# Altium schematic symbol library Integrated Circuits.SchLib: 178 symbols (part 3 of 3)
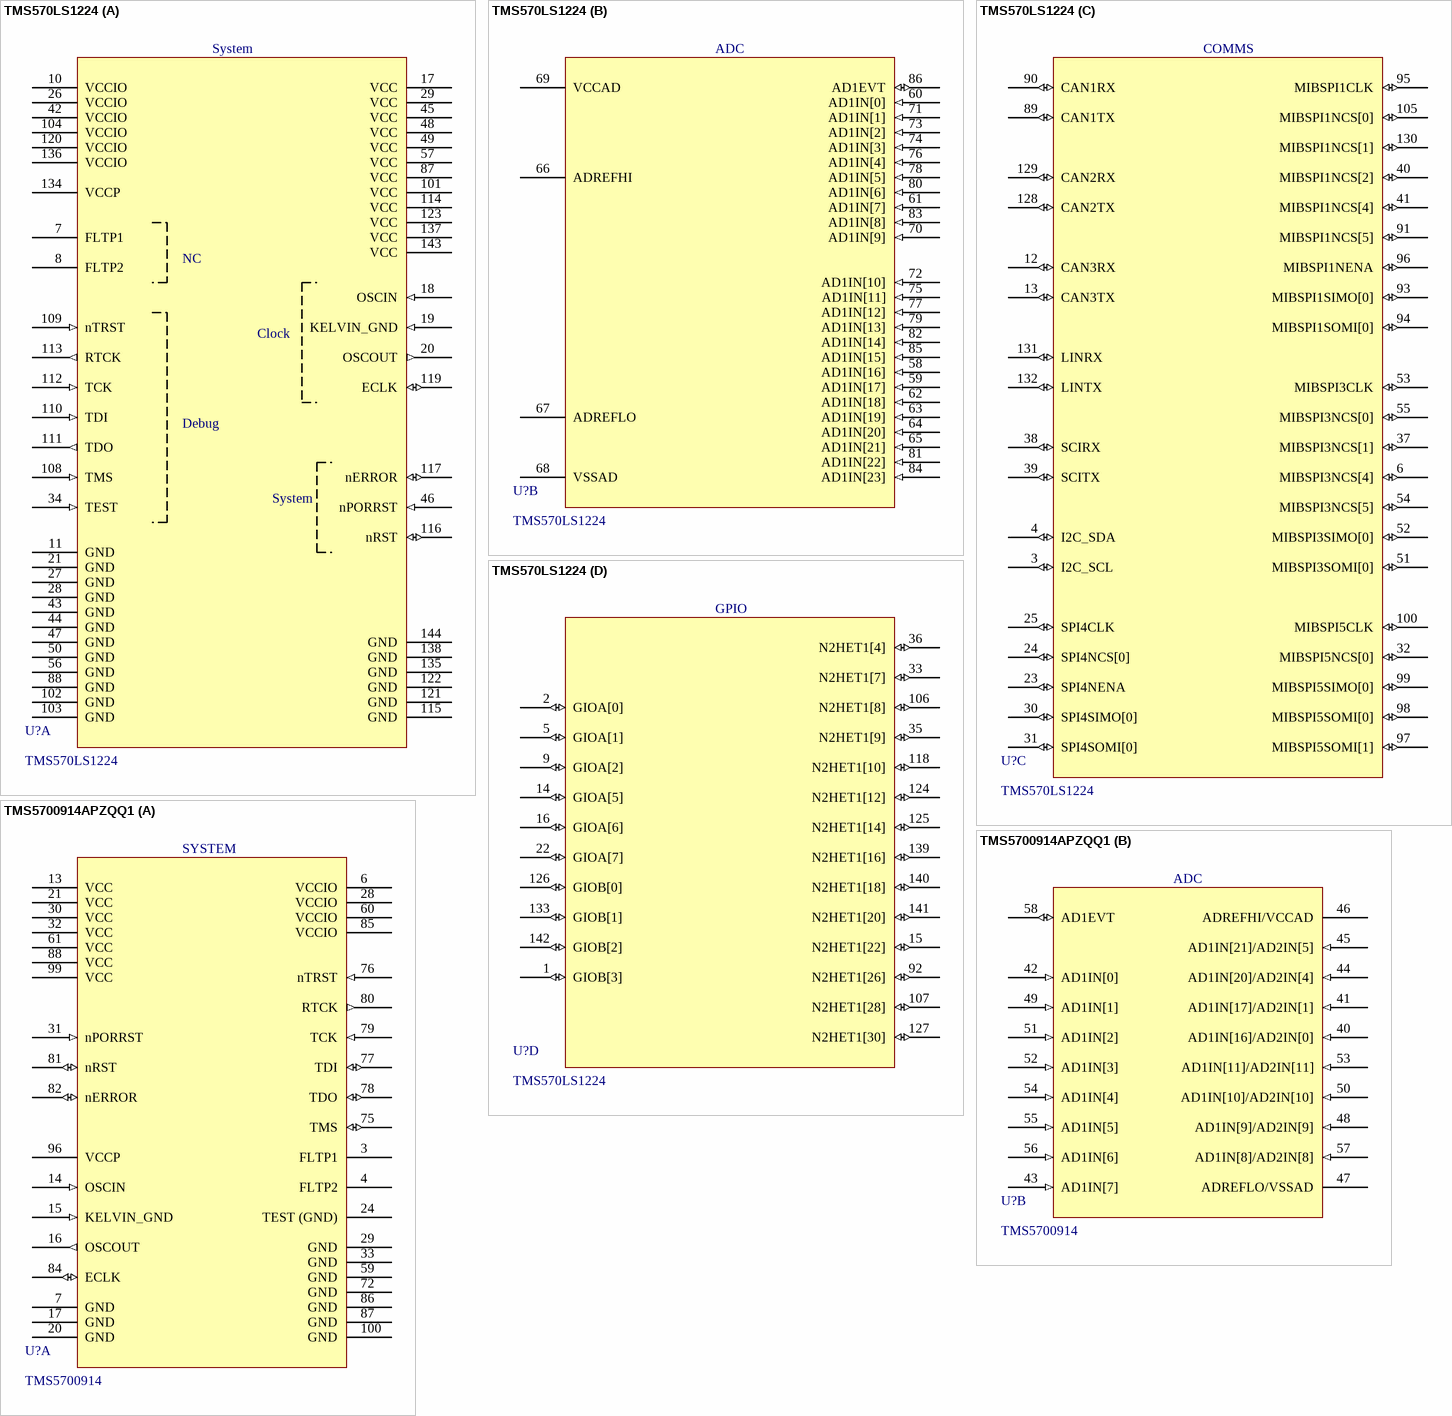
[diagram p18: symbols TMS570LS1224 to TMS5700914APZQQ1]

## TMS570LS1224
designator U?
IC MCU 32BIT 1.25MB FLASH 144QFP; Supplier 1: Digi-Key; Supplier Part Number 1: 296-47200-ND
footprint PGE (S-PQFP-G144) (TSQFP, 144-Leads, Body 20.00x20.00mm, Pitch 0.50mm, IPC Medium Density)
part A pins: 7 FLTP1 "Flash test pads. These terminals are reserved for TI use only. For proper  operation these terminals  must connect only to a  test pad or not be  connected at all [no  connect (NC)].", 8 FLTP2 "Flash test pads. These terminals are reserved for TI use only. For proper  operation these terminals  must connect only to a  test pad or not be  connected at all [no  connect (NC)].", 10 VCCIO "3V3 Power", 11 GND (power) "Ground", 17 VCC "1V2 Power", 18 OSCIN (in) "From external  crystal/resonator, or  external clock input", 19 KELVIN_GND (in) "Kelvin ground for oscillator", 20 OSCOUT (out) "To external  crystal/resonator", 21 GND (power) "Ground", 26 VCCIO "3V3 Power", 27 GND (power) "Ground", 28 GND (power) "Ground", 29 VCC "1V2 Power", 34 TEST (in) "Test enable. This terminal must be connected to  ground directly or via a  pull-down resistor.", 42 VCCIO "3V3 Power", 43 GND (power) "Ground", 44 GND (power) "Ground", 45 VCC "1V2 Power", 46 nPORRST (in) "Power-on reset, cold reset external power supply  monitor circuitry must  drive nPORRST low when  any of the supplies to the  microcontroller fall out of  the specified range. This  terminal has a glitch filter.", 47 GND (power) "Ground", 48 VCC "1V2 Power", 49 VCC "1V2 Power", 50 GND (power) "Ground", 56 GND (power) "Ground", 57 VCC "1V2 Power", 87 VCC "1V2 Power", 88 GND (power) "Ground", 101 VCC "1V2 Power", 102 GND (power) "Ground", 103 GND (power) "Ground", 104 VCCIO "3V3 Power", 108 TMS (in) "JTAG test select", 109 nTRST (in) "JTAG test hardware reset", 110 TDI (in) "JTAG test data in", 111 TDO (out) "JTAG test data out", 112 TCK (in) "JTAG test clock", 113 RTCK (out) "JTAG return test clock", 114 VCC "1V2 Power", 115 GND (power) "Ground", 116 nRST (io) "System reset, warm reset, bidirectional. The internal circuitry  indicates any reset  condition by driving nRST  low.  The external circuitry can  assert a system reset by  driving nRST low. To  ensure that an external  reset is not arbitrarily  generated, TI  recommends that an  external pull-up resistor is  connected to this terminal.  This terminal has a glitch  filter.", 117 nERROR (io) "ESM Error Signal. Indicates error of high  severity.", 119 ECLK (io) "External prescaled clock output, or GPIO.", 120 VCCIO "3V3 Power", 121 GND (power) "Ground", 122 GND (power) "Ground", 123 VCC "1V2 Power", 134 VCCP "3V3 Power", 135 GND (power) "Ground", 136 VCCIO "3V3 Power", 137 VCC "1V2 Power", 138 GND (power) "Ground", 143 VCC "1V2 Power", 144 GND (power) "Ground"
part B pins: 58 AD1IN[16] (in) "ADC1/ADC2 shared analog inputs", 59 AD1IN[17] (in) "ADC1/ADC2 shared analog inputs", 60 AD1IN[0] (in) "ADC1 analog input", 61 AD1IN[7] (in) "ADC1 analog input", 62 AD1IN[18] (in) "ADC1/ADC2 shared analog inputs", 63 AD1IN[19] (in) "ADC1/ADC2 shared analog inputs", 64 AD1IN[20] (in) "ADC1/ADC2 shared analog inputs", 65 AD1IN[21] (in) "ADC1/ADC2 shared analog inputs", 66 ADREFHI (power) "ADC high reference  supply", 67 ADREFLO (power) "ADC low reference supply", 68 VSSAD (power) "Ground", 69 VCCAD (power) "Operating supply for ADC", 70 AD1IN[9] (in) "ADC1/ADC2 shared analog inputs", 71 AD1IN[1] (in) "ADC1 analog input", 72 AD1IN[10] (in) "ADC1/ADC2 shared analog inputs", 73 AD1IN[2] (in) "ADC1 analog input", 74 AD1IN[3] (in) "ADC1 analog input", 75 AD1IN[11] (in) "ADC1/ADC2 shared analog inputs", 76 AD1IN[4] (in) "ADC1 analog input", 77 AD1IN[12] (in) "ADC1/ADC2 shared analog inputs", 78 AD1IN[5] (in) "ADC1 analog input", 79 AD1IN[13] (in) "ADC1/ADC2 shared analog inputs", 80 AD1IN[6] (in) "ADC1 analog input", 81 AD1IN[22] (in) "ADC1/ADC2 shared analog inputs", 82 AD1IN[14] (in) "ADC1/ADC2 shared analog inputs", 83 AD1IN[8] (in) "ADC1/ADC2 shared analog inputs", 84 AD1IN[23] (in) "ADC1/ADC2 shared analog inputs", 85 AD1IN[15] (in) "ADC1/ADC2 shared analog inputs", 86 AD1EVT (io) "ADC1 event trigger input, or GPIO"
part C pins: 3 I2C_SCL (io) "I2C serial clock, or GPIO", 4 I2C_SDA (io) "I2C serial data, or GPIO", 6 MIBSPI3NCS[4] (io) "MibSPI3 chip select, or GPIO", 12 CAN3RX (io) "CAN3 receive, or GPIO", 13 CAN3TX (io) "CAN3 transmit, or GPIO", 23 SPI4NENA (io) "SPI4 enable, or GPIO", 24 SPI4NCS[0] (io) "SPI4 chip select, or GPIO", 25 SPI4CLK (io) "SPI4 clock, or GPIO", 30 SPI4SIMO[0] (io) "SPI4 slave-input masteroutput,  or GPIO", 31 SPI4SOMI[0] (io) "SPI4 slave-output masterinput,  or GPIO", 32 MIBSPI5NCS[0] (io) "MibSPI5 chip select, or  GPIO", 37 MIBSPI3NCS[1] (io) "MibSPI3 chip select, or GPIO", 38 SCIRX (io) "SCI receive, or GPIO", 39 SCITX (io) "SCI transmit, or GPIO", 40 MIBSPI1NCS[2] (io) "MibSPI1 chip select, or GPIO", 41 MIBSPI1NCS[4] (io) "MibSPI1 chip select, or GPIO", 51 MIBSPI3SOMI[0] (io) "MibSPI3 slave-out masterin,  or GPIO", 52 MIBSPI3SIMO[0] (io) "MibSPI3 slave-in masterout,  or GPIO", 53 MIBSPI3CLK (io) "MibSPI3 clock, or GPIO", 54 MIBSPI3NCS[5] (io) "MibSPI3 chip select, or GPIO", 55 MIBSPI3NCS[0] (io) "MibSPI3 chip select, or GPIO", 89 CAN1TX (io) "CAN1 transmit, or GPIO", 90 CAN1RX (io) "CAN1 receive, or GPIO", 91 MIBSPI1NCS[5] (io) "MibSPI1 chip select, or GPIO", 93 MIBSPI1SIMO[0] (io) "MibSPI1 slave-in masterout, or GPIO", 94 MIBSPI1SOMI[0] (io) "MibSPI1 slave-out master-in, or GPIO", 95 MIBSPI1CLK (io) "MibSPI1 clock, or GPIO", 96 MIBSPI1NENA (io) "MibSPI1 enable, or GPIO", 97 MIBSPI5SOMI[1] (io) "MibSPI5 slave-out masterin,  or GPIO", 98 MIBSPI5SOMI[0] (io) "MibSPI5 slave-out masterin,  or GPIO", 99 MIBSPI5SIMO[0] (io) "MibSPI5 slave-in masterout,  or GPIO", 100 MIBSPI5CLK (io) "MibSPI5 clock, or GPIO", 105 MIBSPI1NCS[0] (io) "MibSPI1 chip select, or GPIO", 128 CAN2TX (io) "CAN2 transmit, or GPIO", 129 CAN2RX (io) "CAN2 receive, or GPIO", 130 MIBSPI1NCS[1] (io) "MibSPI1 chip select, or GPIO", 131 LINRX (io) "LIN receive, or GPIO", 132 LINTX (io) "LIN transmit, or GPIO"
part D pins: 1 GIOB[3] (io) "General-purpose I/O", 2 GIOA[0] (io) "General-purpose I/O", 5 GIOA[1] (io) "General-purpose I/O", 9 GIOA[2] (io) "General-purpose I/O", 14 GIOA[5] (io) "General-purpose I/O", 15 N2HET1[22] (io) "N2HET1 time input capture or output compare, or GIO.", 16 GIOA[6] (io) "General-purpose I/O", 22 GIOA[7] (io) "General-purpose I/O", 33 N2HET1[7] (io) "N2HET1 time input capture or output compare, or GIO.", 35 N2HET1[9] (io) "N2HET1 time input capture or output compare, or GIO.", 36 N2HET1[4] (io) "N2HET1 time input capture or output compare, or GIO.", 92 N2HET1[26] (io) "N2HET1 time input capture or output compare, or GIO.", 106 N2HET1[8] (io) "N2HET1 time input capture or output compare, or GIO.", 107 N2HET1[28] (io) "N2HET1 time input capture or output compare, or GIO.", 118 N2HET1[10] (io) "N2HET1 time input capture or output compare, or GIO.", 124 N2HET1[12] (io) "N2HET1 time input capture or output compare, or GIO.", 125 N2HET1[14] (io) "N2HET1 time input capture or output compare, or GIO.", 126 GIOB[0] (io) "General-purpose I/O", 127 N2HET1[30] (io) "N2HET1 time input capture or output compare, or GIO.", 133 GIOB[1] (io) "General-purpose I/O", 139 N2HET1[16] (io) "N2HET1 time input capture or output compare, or GIO.", 140 N2HET1[18] (io) "N2HET1 time input capture or output compare, or GIO.", 141 N2HET1[20] (io) "N2HET1 time input capture or output compare, or GIO.", 142 GIOB[2] (io) "General-purpose I/O"
part A text: System; NC; Clock; Debug
part B text: ADC
part C text: COMMS
part D text: GPIO

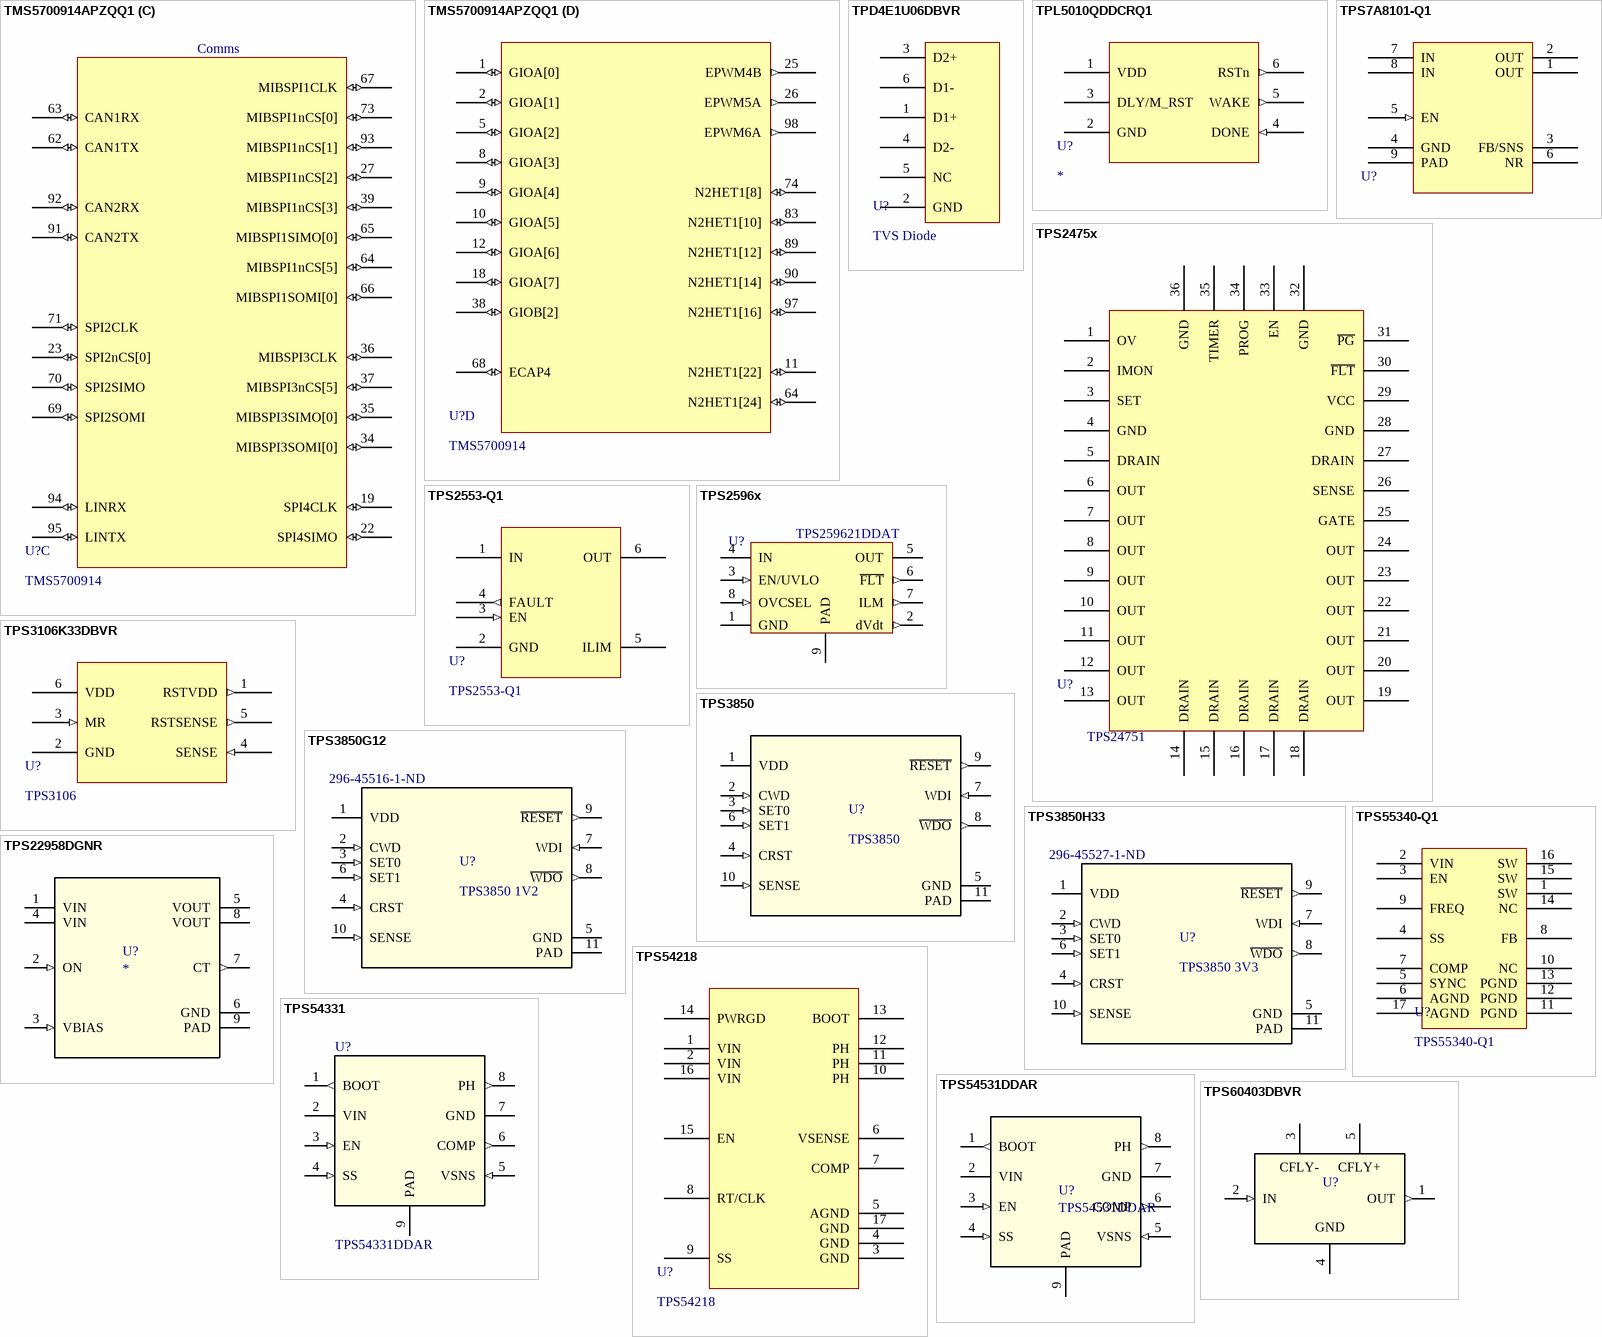
[diagram p14: symbols TMS5700914APZQQ1 to TPS60403DBVR]

## TMS5700914APZQQ1
designator U?, comment TMS5700914
IC MCU 32BIT 1MB FLASH 100LQFP; Supplier 1: Digi-Key; Supplier Part Number 1: 296-45371-ND
footprint PZ (S-PQFP-G100) (PLASTIC QUAD FLATPACK)
part A pins: 3 FLTP1 "NC", 4 FLTP2 "NC", 6 VCCIO (power) "3.3-V Power", 7 GND (power) "Ground", 13 VCC (power) "1.2-V Power", 14 OSCIN (in) "From external crystal/resonator, or external clock input", 15 KELVIN_GND (in) "Dedicated ground for oscillator", 16 OSCOUT (out) "To external crystal/resonator", 17 GND (power) "Ground", 20 GND (power) "Ground", 21 VCC (power) "1.2-V Power", 24 TEST (GND) "Test enable. This terminal must be connected to ground  directly or via a pulldown resistor.", 28 VCCIO (power) "3.3-V Power", 29 GND (power) "Ground", 30 VCC (power) "1.2-V Power", 31 nPORRST (in) "Power-on reset, cold reset External power supply  monitor circuitry must drive nPORRST low when any of  the supplies to the microcontroller fall out of the  specified range. This terminal has a glitch filter.", 32 VCC (power) "1.2-V Power", 33 GND (power) "Ground", 59 GND (power) "Ground", 60 VCCIO (power) "3.3-V Power", 61 VCC (power) "1.2-V Power", 72 GND (power) "Ground", 75 TMS (io) "JTAG test select", 76 nTRST (in) "JTAG test hardware reset", 77 TDI (io) "JTAG test data in", 78 TDO (io) "JTAG test data out", 79 TCK (in) "JTAG test clock", 80 RTCK (out) "JTAG return test clock", 81 nRST (io) "The external circuitry can assert a system reset by  driving nRST low. To ensure that an external reset is not  arbitrarily generated, TI recommends that an external  pullup resistor is connected to this terminal. This  terminal has a glitch filter.", 82 nERROR (io) "ESM Error Signal. Indicates error of high severity.", 84 ECLK (io) "External prescaled clock output, or GIO.", 85 VCCIO (power) "3.3-V Power", 86 GND (power) "Ground", 87 GND (power) "Ground", 88 VCC (power) "1.2-V Power", 96 VCCP (power) "3.3-V Power", 99 VCC (power) "1.2-V Power", 100 GND (power) "Ground"
part B pins: 40 AD1IN[16]/AD2IN[0] (in) "Analog Inputs", 41 AD1IN[17]/AD2IN[1] (in) "Analog Inputs", 42 AD1IN[0] (in) "Analog Inputs", 43 AD1IN[7] (in) "Analog Inputs", 44 AD1IN[20]/AD2IN[4] (in) "Analog Inputs", 45 AD1IN[21]/AD2IN[5] (in) "Analog Inputs", 46 ADREFHI/VCCAD (power) "ADC High Reference Level/ADC Operating  Supply", 47 ADREFLO/VSSAD (power) "ADC Low Reference Level/ADC Supply Ground", 48 AD1IN[9]/AD2IN[9] (in) "Analog Inputs", 49 AD1IN[1] (in) "Analog Inputs", 50 AD1IN[10]/AD2IN[10] (in) "Analog Inputs", 51 AD1IN[2] (in) "Analog Inputs", 52 AD1IN[3] (in) "Analog Inputs", 53 AD1IN[11]/AD2IN[11] (in) "Analog Inputs", 54 AD1IN[4] (in) "Analog Inputs", 55 AD1IN[5] (in) "Analog Inputs", 56 AD1IN[6] (in) "Analog Inputs", 57 AD1IN[8]/AD2IN[8] (in) "Analog Inputs", 58 AD1EVT (io) "ADC1 Event Trigger or GPIO"
part C pins: 19 SPI4CLK (io) "SPI4 Serial Clock", 22 SPI4SIMO (io) "SPI2 Slave-In-Master-Out", 23 SPI2nCS[0] (io) "SPI2 Chip Select", 27 MIBSPI1nCS[2] (io) "MibSPI1 Chip Select", 34 MIBSPI3SOMI[0] (io) "MibSPI3 Slave-Out-Master-In", 35 MIBSPI3SIMO[0] (io) "MibSPI3 Slave-In-Master-Out", 36 MIBSPI3CLK (io) "MibSPI3 Serial Clock", 37 MIBSPI3nCS[5] (io) "MibSPI3 Chip Select", 39 MIBSPI1nCS[3] (io) "MibSPI1 Chip Select", 62 CAN1TX (io) "CAN1 Transmit", 63 CAN1RX (io) "CAN1 Receive", 64 MIBSPI1nCS[5] (io) "MibSPI1 Chip Select", 65 MIBSPI1SIMO[0] (io) "MibSPI1 Slave-In-Master-Out", 66 MIBSPI1SOMI[0] (io) "MibSPI1 Slave-In-Master-Out", 67 MIBSPI1CLK (io) "MibSPI1 Serial Clock", 69 SPI2SOMI (io) "SPI2 Slave-Out-Master-In", 70 SPI2SIMO (io) "SPI2 Slave-In-Master-Out", 71 SPI2CLK (io) "SPI2 Serial Clock", 73 MIBSPI1nCS[0] (io) "MibSPI1 Chip Select", 91 CAN2TX  (io) "CAN2 Transmit", 92 CAN2RX (io) "CAN2 Receive", 93 MIBSPI1nCS[1] (io) "MibSPI1 Chip Select", 94 LINRX (io) "LIN Receive", 95 LINTX (io) "LIN Transmit"
part D pins: 1 GIOA[0] (io) "GPIO", 2 GIOA[1] (io) "GPIO", 5 GIOA[2] (io) "GPIO", 8 GIOA[3] (io) "GPIO", 9 GIOA[4] (io) "GPIO", 10 GIOA[5] (io) "GPIO", 11 N2HET1[22] (io) "N2HET2 timer input capture", 12 GIOA[6] (io) "GPIO", 18 GIOA[7] (io) "GPIO", 25 EPWM4B (out) "Enhanced PWM4 Output B", 26 EPWM5A (out) "Enhanced PWM5 Output A", 38 GIOB[2] (io) "GPIO", 64 N2HET1[24] (io) "N2HET2 timer input capture", 68 ECAP4 (io) "Enhanced Capture Module 4 I/O", 74 N2HET1[8] (io) "N2HET2 timer input capture", 83 N2HET1[10] (io) "N2HET2 timer input capture", 89 N2HET1[12] (io) "N2HET2 timer input capture", 90 N2HET1[14] (io) "N2HET2 timer input capture", 97 N2HET1[16] (io) "N2HET2 timer input capture", 98 EPWM6A (out) "Enhanced PWM6 Output A"
part A text: SYSTEM
part B text: ADC
part C text: Comms

## TPD4E1U06DBVR
designator U?, comment TVS Diode
TVS DIODE 5.5VWM 15VC SOT23-6; Supplier 1: Digi-Key; Supplier Part Number 1: 296-39347-1-ND
footprint DCK (R-PDSO-G6) (TSOP, 6-Leads, Body 2.00x1.25mm, Pitch 0.65mm, IPC Medium Density)
pins: 1 D1+, 2 GND, 3 D2+, 4 D2-, 5 NC, 6 D1-

## TPL5010QDDCRQ1
designator U?
IC TIMER W/WATCHDOG 6SOT; Supplier 1: Digi-Key; Supplier Part Number 1: 296-44963-1-ND
footprint DDC (R-PDSO-G6) (SOT23, 6-Leads, Body 2.90x2.80mm, Pitch 0.95mm, IPC Medium Density)
pins: 1 VDD (power), 2 GND, 3 DLY/M_RST, 4 DONE (in), 5 WAKE (out), 6 RSTn (out)

## TPS7A8101-Q1
designator U?, comment TPS7A8101QDRBRQ1  (value not drawn)
IC REG LINEAR POS ADJ 1A 8SON; Supplier 1: Digi-Key; Supplier Part Number 1: 296-40980-1-ND
footprint DRB0008A (VSON - 1 mm max height)
pins: 1 OUT (power), 2 OUT (power), 3 FB/SNS, 4 GND, 5 EN (in), 6 NR, 7 IN (power), 8 IN (power), 9 PAD

## TPS2475x
designator U?  Manufacturer Part No: TPS24751  (hidden comment: TPS2475x)
eFuse Circuit Protector with Current Monitor; Supplier 1: Digi-Key; Supplier Part Number 1: 296-46228-1-ND
footprint VQFN50P700X350X100-36N (VQFN, 36-Leads, Body 7.00x3.50mm, Pitch 0.50mm, IPC Medium Density)
pins: 1 OV, 2 IMON, 3 SET, 4 GND, 5 DRAIN, 6 OUT, 7 OUT, 8 OUT, 9 OUT, 10 OUT, 11 OUT, 12 OUT, 13 OUT, 14 DRAIN, 15 DRAIN, 16 DRAIN, 17 DRAIN, 18 DRAIN, 19 OUT, 20 OUT, 21 OUT, 22 OUT, 23 OUT, 24 OUT, 25 GATE, 26 SENSE, 27 DRAIN, 28 GND, 29 VCC, 30 ~{FLT}, 31 ~{PG}, 32 GND, 33 EN, 34 PROG, 35 TIMER, 36 GND

## TPS2553-Q1
designator U?
TPS2553QDBVRQ1; Supplier 1: Digi-Key; Supplier Part Number 1: 296-40729-1-ND
footprint DBV (R-PDSO-G6) (TSOP, 6-Leads, Body 2.90x1.60mm, Pitch 0.95mm, IPC Medium Density)
pins: 1 IN (power), 2 GND, 3 EN (in), 4 FAULT (out), 5 ILIM, 6 OUT (power)

## TPS2596x
designator U?  Manufacturer Part No: TPS259621DDAT  (hidden comment: *)
EFUSE 2.7-19V 130MA-2A SURGE CLAMPING; Supplier 1: Mouser; Supplier Part Number 1: 595-TPS259621DDAT
footprint SOIC127P600X170-9N (SOIC ,1.27mm pitch;8 pin,3.90mm W X 4.90mm L X 1.70mm H body (w/thermal tab))
pins: 1 GND, 2 dVdt (out), 3 EN/UVLO (in), 4 IN (power), 5 OUT (power), 6 ~{FLT} (out), 7 ILM (out), 8 OVCSEL (in), 9 PAD

## TPS3106K33DBVR
designator U?, comment TPS3106
IC SUPERVISORY CIRCUIT SOT-23-6; Supplier 1: Digi-Key; Supplier Part Number 1: 296-13399-1-ND
footprint DBV (R-PDSO-G6) (TSOP, 6-Leads, Body 2.90x1.60mm, Pitch 0.95mm, IPC Medium Density)
pins: 1 RSTVDD (out), 2 GND, 3 MR (in), 4 SENSE (in), 5 RSTSENSE (out), 6 VDD (power)

## TPS3850
designator U?
VOLTAGE SUPERVISOR WITH WINDOW WATCHDOG TIMER; Supplier 1: Digi-Key; Supplier 2: Digi-Key; Supplier Part Number 1: 296-45527-1-ND; Supplier Part Number 2: 296-45516-1-ND
footprint DRC0010R
pins: 1 VDD (power), 2 CWD (in), 3 SET0 (in), 4 CRST (in), 5 GND (power), 6 SET1 (in), 7 WDI (in), 8 ~{WDO} (out), 9 ~{RESET} (out), 10 SENSE (in), 11 PAD (power)

## TPS3850G12
designator U?, comment TPS3850 1V2  Supplier Part Number 1: 296-45516-1-ND
VOLTAGE SUPERVISOR WITH WINDOW WATCHDOG TIMER 1V2; Supplier 1: Digi-Key
footprint DRC0010R
pins: 1 VDD (power), 2 CWD (in), 3 SET0 (in), 4 CRST (in), 5 GND (power), 6 SET1 (in), 7 WDI (in), 8 ~{WDO} (out), 9 ~{RESET} (out), 10 SENSE (in), 11 PAD (power)

## TPS3850H33
designator U?, comment TPS3850 3V3  Supplier Part Number 1: 296-45527-1-ND
VOLTAGE SUPERVISOR WITH WINDOW WATCHDOG TIMER 3V3; Supplier 1: Digi-Key
footprint DRC0010R
pins: 1 VDD (power), 2 CWD (in), 3 SET0 (in), 4 CRST (in), 5 GND (power), 6 SET1 (in), 7 WDI (in), 8 ~{WDO} (out), 9 ~{RESET} (out), 10 SENSE (in), 11 PAD (power)

## TPS22958DGNR
designator U?
IC LOAD SWITCH 6A; PartNumber: TPS22958DGNR; Alternate_PartNumber: TPS22958DGNT; Manufacturer: Texas Instruments; PIN_COUNT: 9; PackageReference: DGN0008D; MountType: SMT; CompType: IC; RoHS: Y; RefDes: RefDes; TYPE: TYPE; Value: Value
footprint DGN (S-PDSO-G8)
pins: 1 VIN (power), 2 ON (in), 3 VBIAS (in), 4 VIN (power), 5 VOUT (power), 6 GND (power), 7 CT (out), 8 VOUT (power), 9 PAD (power)

## TPS54218
designator U?
IC REG BUCK ADJ 2A SYNC 16QFN; Supplier 1: Digi-Key; Supplier Part Number 1: 296-32491-1-ND
footprint RTE (S-PWQFN-N16) (PQFN, 16-Leads, Body 3.00x3.00mm, Pitch 0.50mm, Thermal Pad 1.65x1.65mm, IPC Low Density)
pins: 1 VIN, 2 VIN, 3 GND, 4 GND, 5 AGND, 6 VSENSE, 7 COMP, 8 RT/CLK, 9 SS, 10 PH, 11 PH, 12 PH, 13 BOOT, 14 PWRGD, 15 EN, 16 VIN, 17 GND

## TPS54331
designator U?, comment TPS54331DDAR
Step-Down 28Vin 3A 570kHz SOIC-8_EP_150mil DC-DC Converters RoHS; Supplier 1: Digi-Key; Supplier 2: Mouser; Supplier 3: LCSC; Supplier Part Number 1: 296-39419-1-ND; Supplier Part Number 2: 595-TPS54331DDAR; Supplier Part Number 3: C90761
footprint DDA (R-PDSO-G8) - TPS54331 (TPS54331 SOIC-8, PowerPAD)
pins: 1 BOOT (out), 2 VIN (power), 3 EN (in), 4 SS (in), 5 VSNS (in), 6 COMP (out), 7 GND (power), 8 PH (out), 9 PAD (power)

## TPS54531DDAR
designator U?
Step-Down Positive Adjustable 1 5A 570kHz SOIC-8_EP_150mil DC-DC Converters RoHS; Supplier 1: Digi-Key; Supplier 2: Mouser; Supplier 3: LCSC; Supplier Part Number 1: 296-40801-1-ND; Supplier Part Number 2: 595-TPS54531DDAR; Supplier Part Number 3: C50605
footprint DDA (R-PDSO-G8) - TPS54531 (TPS54531 SOIC-8, PowerPAD)
pins: 1 BOOT (out), 2 VIN (power), 3 EN (in), 4 SS (in), 5 VSNS (in), 6 COMP (out), 7 GND (power), 8 PH (out), 9 PAD (power)

## TPS55340-Q1
designator U?
IC REG MULT CONFG ISO ADJ 16WQFN; Manufacturer Part Number: TPS55340QRTERQ1; Last Edited By: Alexander Doknjas; Last Edited On: 10/13/2017; Supplier 1: Digi-Key; Supplier Part Number 1: 296-40811-1-ND
footprint RTE (S-PWQFN-N16) (QFN, 16-Leads, Body 3.00x3.00mm, Pitch 0.50mm, Thermal Pad 1.70x1.70mm, IPC Medium Density)
pins: 1 SW, 2 VIN, 3 EN, 4 SS, 5 SYNC, 6 AGND, 7 COMP, 8 FB, 9 FREQ, 10 NC, 11 PGND, 12 PGND, 13 PGND, 14 NC, 15 SW, 16 SW, 17 AGND

## TPS60403DBVR
designator U?  (value not drawn)
IC REG SWTCHD CAP INV 60MA SOT23; Manufacturer: Texas Inst; Last Edited By: Russell Burge; Last Edited On: 3/17/2016; Manufacturer Part Number: TPS60403DBVR; Supplier: Digikey; Supplier Part Number: 296-27005-1-ND
footprint SOT25 (SOT23, 5-Leads, Body 2.95x3.05mm, Pitch 0.95mm, IPC Medium Density)
pins: 1 OUT (out), 2 IN (in), 3 CFLY-, 4 GND (power), 5 CFLY+

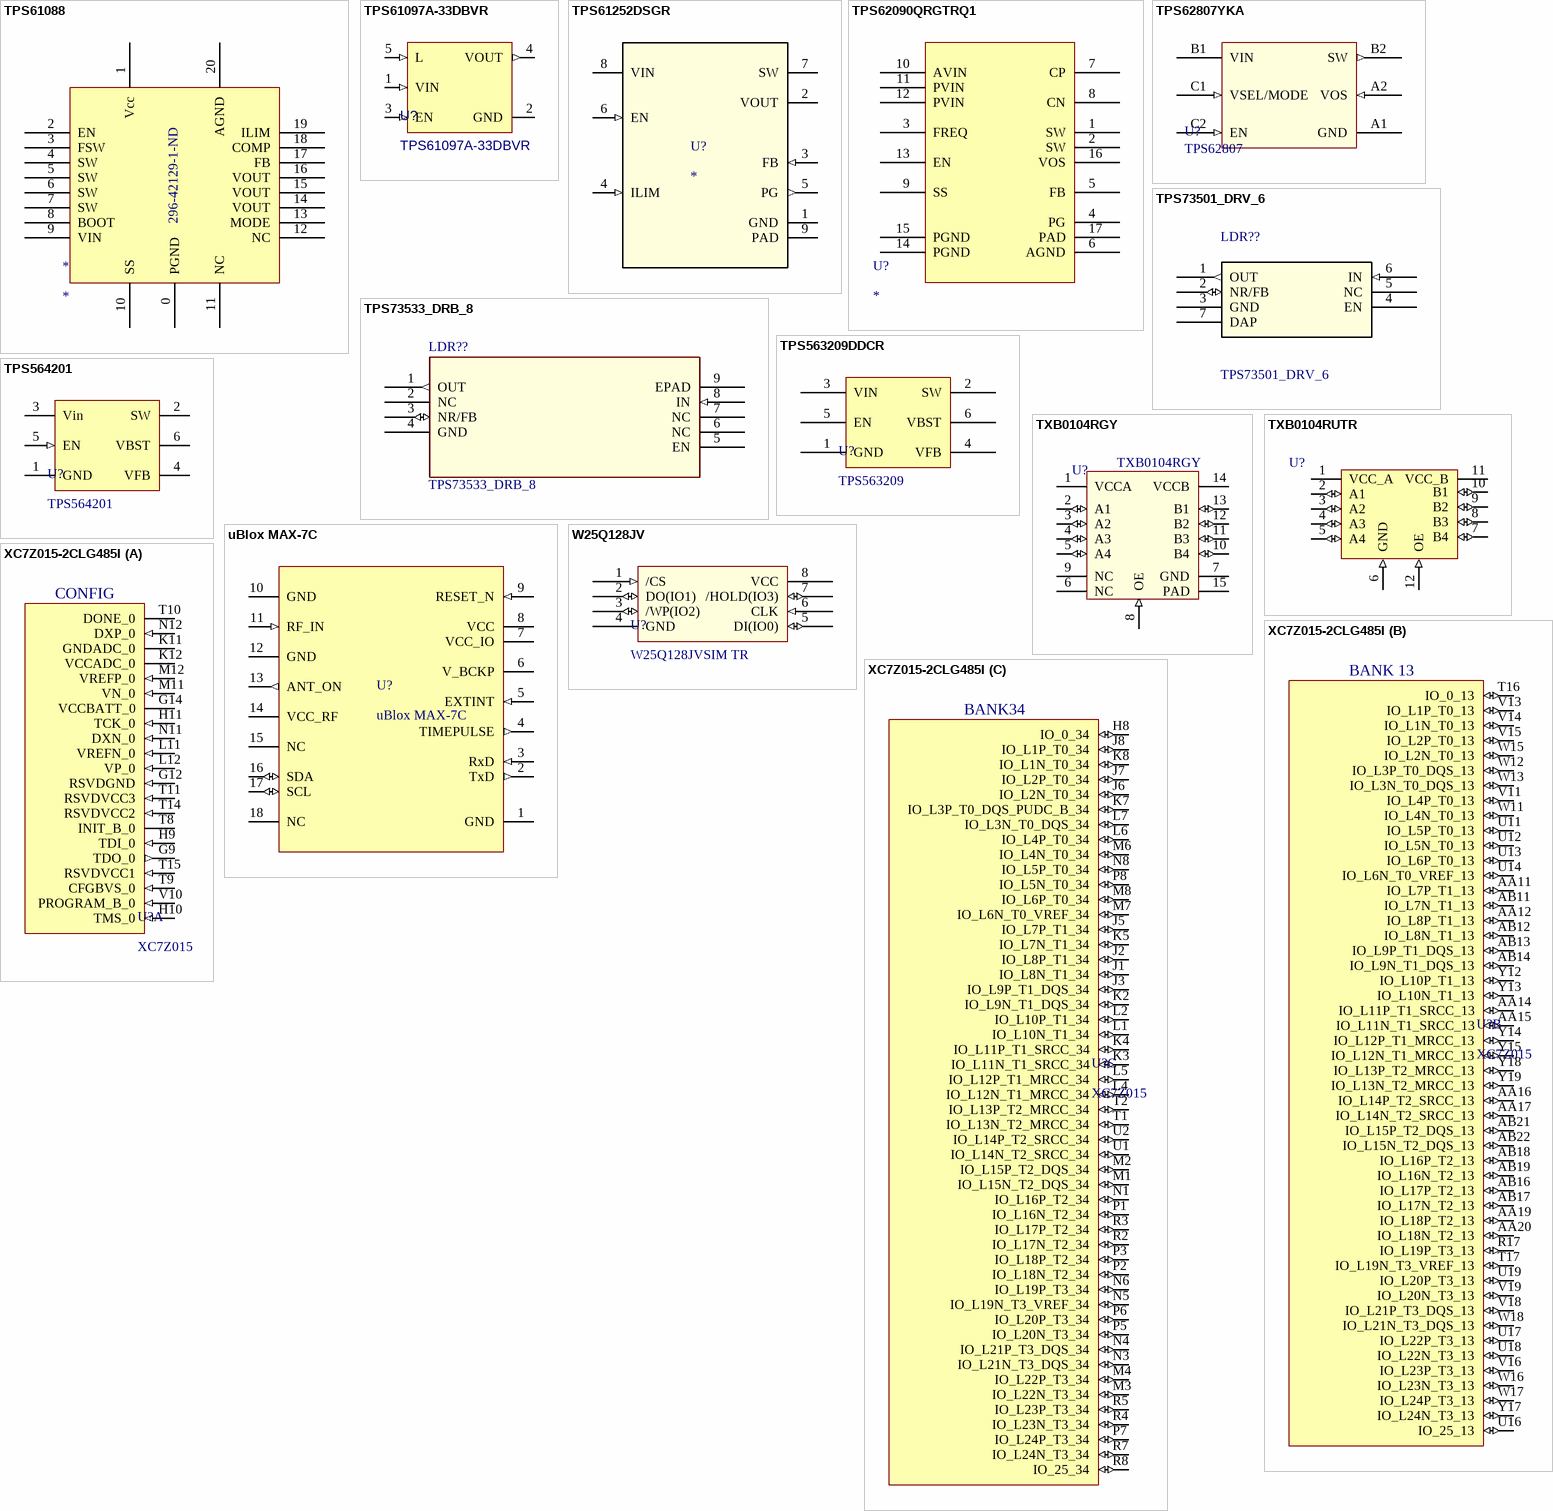
[diagram p15: symbols TPS61088 to XC7Z015-2CLG485I]

## TPS61088
designator *  Supplier Part Number 1: 296-42129-1-ND
Supplier 1: Digi-Key
footprint VQFN-N20
pins: 0 PGND, 1 Vcc, 2 EN, 3 FSW, 4 SW, 5 SW, 6 SW, 7 SW, 8 BOOT, 9 VIN, 10 SS, 11 NC, 12 NC, 13 MODE, 14 VOUT, 15 VOUT, 16 VOUT, 17 FB, 18 COMP, 19 ILIM, 20 AGND

## TPS61097A-33DBVR
designator U?
0.9Vin, 3.3Vout Boost Converter with Bypass Switch - 5nA Shutdown Current; MF: Texas Instruments; Check_prices: https://www.snapeda.com/parts/TPS61097A-33DBVR/Texas+Instruments/view-part/?ref=eda; SnapEDA_Link: https://www.snapeda.com/parts/TPS61097A-33DBVR/Texas+Instruments/view-part/?ref=snap; Price: None; Availability: In Stock; Value: *; MP: TPS61097A-33DBVR; Package: SOT-23-5 Texas Instruments; Purchase-URL: https://pricing.snapeda.com/search/part/TPS61097A-33DBVR/?ref=eda; Supplier 1: Digi-Key; Supplier 2: Mouser; Supplier Part Number 1: 296-44398-1-ND; Supplier Part Number 2: 595-TPS61097A-33DBVR
footprint SOT95P280X145-5N - duplicate
pins: 1 VIN (in), 2 GND (power), 3 EN (in), 4 VOUT (out), 5 L (in)

## TPS61252DSGR
designator U?
IC BOOST CONV ADJ 1.5A 8WSON; PartNumber: TPS61252DSG; Manufacturer: Texas Instruments; PIN_COUNT: 9; PackageReference: DSG0008A; MountType: SMT; CompType: IC; RoHS: Y; RefDes: RefDes; TYPE: TYPE; Value: Value; Supplier 1: Digi-Key; Supplier Part Number 1: 296-39439-1-ND
footprint WSON 8 2x2 (DRV8837)
pins: 1 GND (power), 2 VOUT (power), 3 FB (in), 4 ILIM (in), 5 PG (out), 6 EN (in), 7 SW (power), 8 VIN (power), 9 PAD (power)

## TPS62090QRGTRQ1
designator U?
IC REG BUCK ADJ 3A SYNC 16QFN; Supplier 1: Digi-Key; Supplier Part Number 1: 296-37008-1-ND
footprint RGT0016C (QFN, 16-Leads, Body 3.00x3.00mm, Pitch 0.50mm, Thermal Pad 1.68x1.68mm, IPC High Density)
pins: 1 SW, 2 SW, 3 FREQ, 4 PG, 5 FB, 6 AGND, 7 CP, 8 CN, 9 SS, 10 AVIN, 11 PVIN, 12 PVIN, 13 EN, 14 PGND, 15 PGND, 16 VOS, 17 PAD

## TPS62807YKA
designator U?, comment TPS62807
1.8-V to 5.5-V, 0.6A Step Down Converter. 6-Pin, 0.35mm WCSP Package
footprint BGA6-0.35mm WCSP (TPS62807YKA)
pins: A1 GND (power), A2 VOS (in), B1 VIN (power), B2 SW (out), C1 VSEL/MODE (in), C2 EN (in)

## TPS73501_DRV_6
designator LDR??
IC REG LDO ADJ 0.5A 6SON; Manufacturer: Texas Instruments; PIN_COUNT: 6; Manufacturer_Part_Number: TPS73501_DRV_6; Datasheet URL: http://www.ti.com/lit/gpn/TPS73533; Value: TPS73501_DRV_6; Data Sheet: http://www.ti.com/lit/gpn/TPS73533; PackageDescription: 6 DRV; Supplier 1: Digi-Key; Supplier Part Number 1: 296-34785-1-ND
footprint DRV6 (QFN, 6-Leads, Body 2.00x2.00mm, Pitch 0.65mm/0.50mm, Thermal Pad 1.00x1.60mm, IPC Medium Density)
pins: 1 OUT (out), 2 NR/FB (io), 3 GND (power), 4 EN, 5 NC, 6 IN (in), 7 DAP

## TPS73533_DRB_8
designator LDR??
Imported; Manufacturer: Texas Instruments; PIN_COUNT: 8; Manufacturer_Part_Number: tps73533_drb_8; Datasheet URL: http://www.ti.com/lit/gpn/TPS73533; Value: TPS73533_DRB_8; Data Sheet: http://www.ti.com/lit/gpn/TPS73533; PackageDescription: 8 DRB; Supplier 1: DigiKey; Supplier Part Number 1: 296-24854-1-ND
footprint DRB8_1P75X1P5
footprint DRB8_1P75X1P5
pins: 1 OUT (out), 2 NC, 3 NR/FB (io), 4 GND (power), 5 EN, 6 NC, 7 NC, 8 IN (in), 9 EPAD

## TPS563209DDCR
designator U?, comment TPS563209
IC REG BUCK ADJ 3A SYNC SOT23; Supplier 1: Digi-Key; Supplier Part Number 1: 296-40813-1-ND
footprint DDC (R-PDSO-G6) (SOT23, 6-Leads, Body 2.90x2.80mm, Pitch 0.95mm, IPC Medium Density)
pins: 1 GND, 2 SW, 3 VIN, 4 VFB, 5 EN, 6 VBST

## TPS564201
designator U?
Buck Converter, 4.5-17V in, 0.76-7V out, 4A, TSOT-6; Manufacturer: Texas Instruments; Supplier: Digi-Key; Supplier Part Number: 296-44195-1-ND; Manufacturer Part Number: TPS564201; Last Modified By: Peter Kazakoff; Last Modified Date: November 13th 2016; Supplier 1: Digi-Key; Supplier Part Number 1: 296-44195-1-ND
footprint SOT95P280X90-6N (SOT23, 6-Leads, Body 2.90x2.80mm, Pitch 0.95mm, IPC Medium Density)
pins: 1 GND (power), 2 SW, 3 Vin (power), 4 VFB, 5 EN (in), 6 VBST

## TXB0104RGY
designator U?  Manufacturer Part Number: TXB0104RGY  (hidden comment: *)
Voltage Level Translator Bidirectional 1 Circuit 4 Channel 100Mbps 14-VQFN (3.5x3.5); Supplier 1: Digi-Key; Supplier Part Number 1: 296-21930-1-ND
footprint VQFN50P350X350X100-14N (VQFN, 14-Leads, Body 3.50x3.50mm, Pitch 0.50mm, IPC Medium Density)
pins: 1 VCCA (power), 2 A1 (io), 3 A2 (io), 4 A3 (io), 5 A4 (io), 6 NC, 7 GND, 8 OE (in), 9 NC, 10 B4 (io), 11 B3 (io), 12 B2 (io), 13 B1 (io), 14 VCCB (power), 15 PAD

## TXB0104RUTR
designator U?  (value not drawn)
Voltage Level Translator Bidirectional 1 Circuit 4 Channel 100Mbps 12-UQFN (1.7x2); Supplier 1: Digi-Key; Supplier Part Number 1: 296-25888-1-ND
footprint 12-UQFN 1.7x2 (TXB0104RUTR)
pins: 1 VCC_A (power), 2 A1 (io), 3 A2 (io), 4 A3 (io), 5 A4 (io), 6 GND (in), 7 B4 (io), 8 B3 (io), 9 B2 (io), 10 B1 (io), 11 VCC_B (power), 12 OE (in)

## uBlox MAX-7C
designator U?
GPS Module, SMT, UART and I2C interfaces, correct COCOM implementation ("AND"); Preferred Source: AliExpress; Approx. Cost: $11.25; Manufacturer: uBlox; Manufacturer Part #: MAX-7C
footprint U-BLOX-MAX7
pins: 1 GND (power), 2 TxD (out), 3 RxD (in), 4 TIMEPULSE (out), 5 EXTINT (in), 6 V_BCKP (power), 7 VCC_IO (power), 8 VCC (power), 9 RESET_N (in), 10 GND (power), 11 RF_IN (in), 12 GND (power), 13 ANT_ON (out), 14 VCC_RF (power), 15 NC, 16 SDA (io), 17 SCL (io), 18 NC

## W25Q128JV
designator U?, comment W25Q128JVSIM TR
NOR Flash spiFlash, 3V, 128M-bit, 4Kb Uniform Sector, DTR; Supplier 1: Digi-Key; Supplier Part Number 1: W25Q128JVSIMCT-ND; Supplier 2: Mouser; Supplier Part Number 2: 454-W25Q128JVSIMTR
footprint SOIC127P790X216-8N (SOIC, 8-Leads, Body 5.28x5.28mm, Pitch 1.27mm, IPC Medium Density)
pins: 1 /CS (in), 2 DO(IO1) (io), 3 /WP(IO2) (io), 4 GND (power), 5 DI(IO0) (io), 6 CLK (in), 7 /HOLD(IO3) (io), 8 VCC (power)

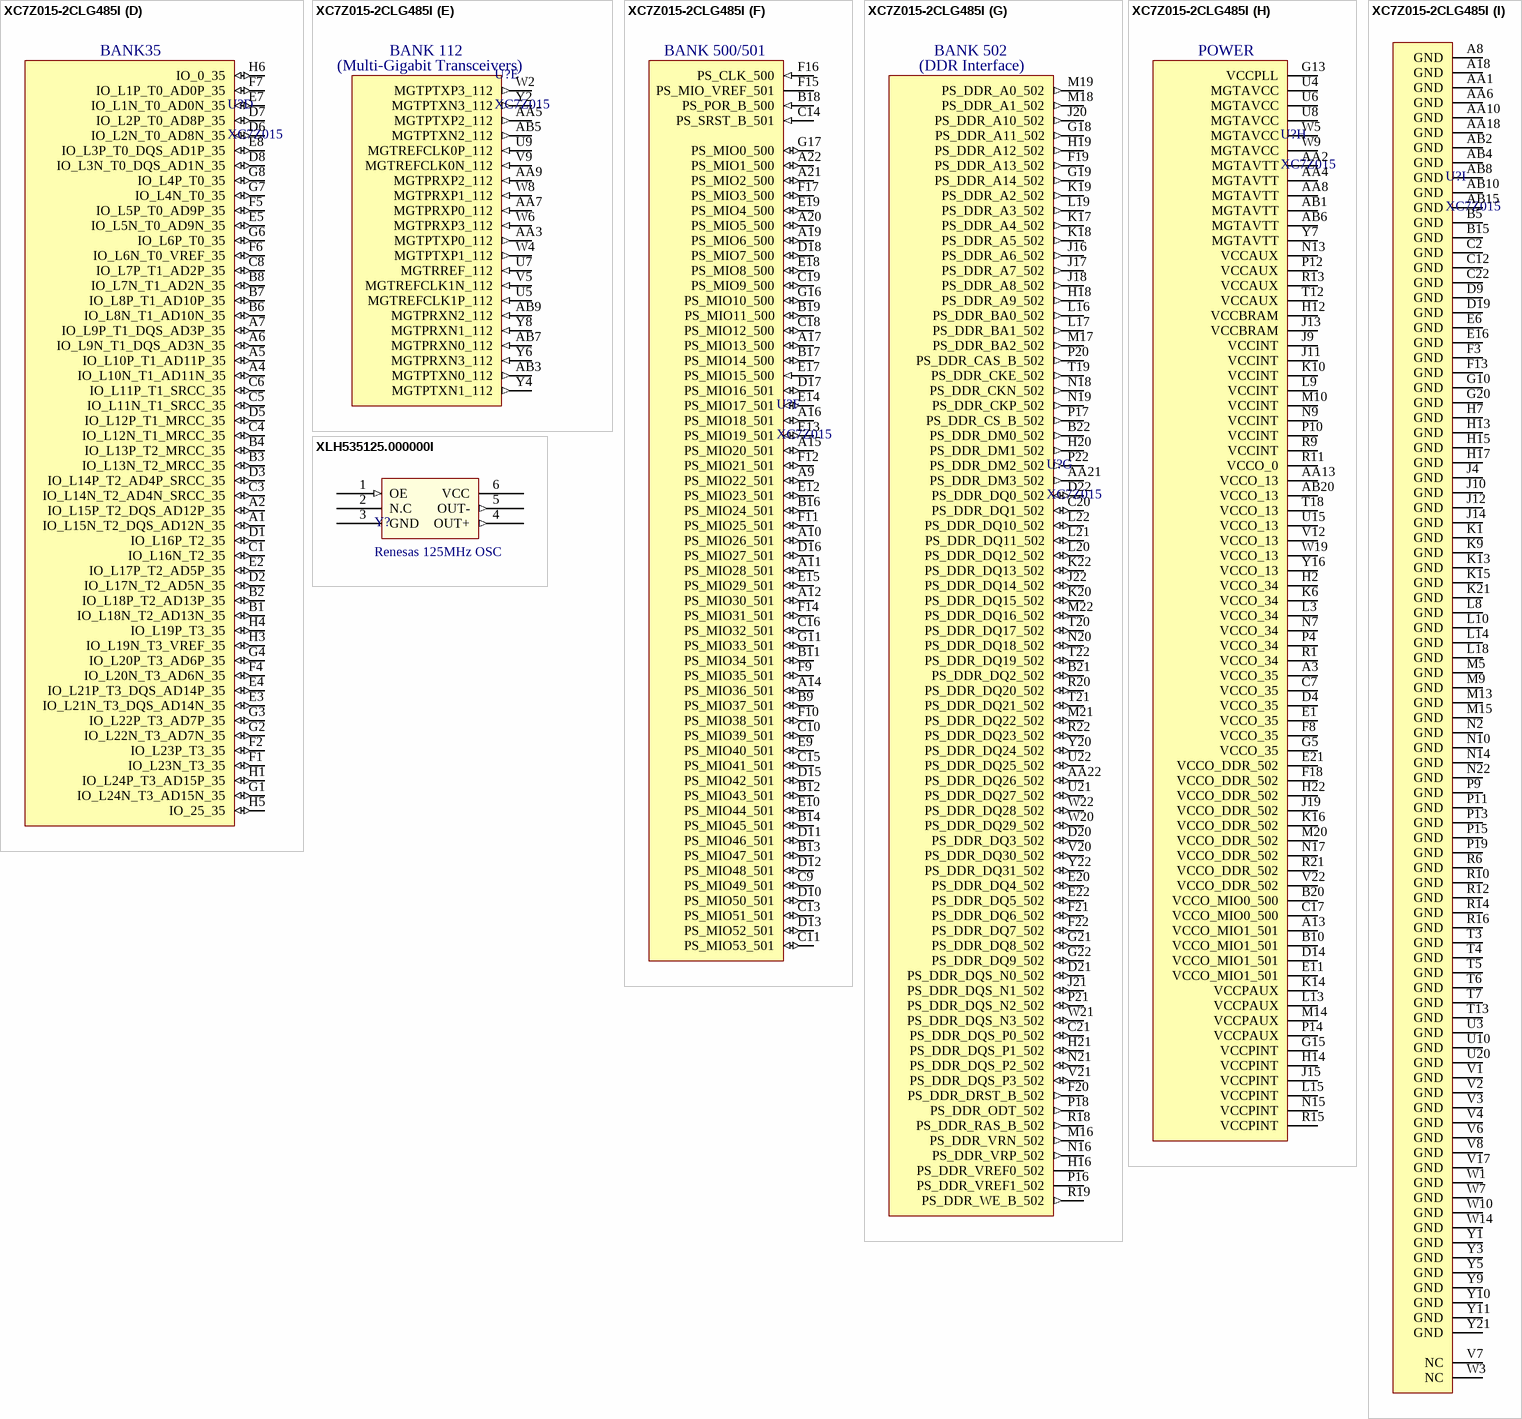
[diagram p16: symbols XC7Z015-2CLG485I to XLH535125.000000I]

## XC7Z015-2CLG485I
designator U?, comment XC7Z015
SoC, Zynq-7015, 2 x 766 MHz ARM Cortex A9, Artix-7 FPGA w/74k LUT; Manufacturer: Xilinx; Manufacturer Part #: XC7Z015-2CLG485I
footprint CLG485 (BGA, 484-Leads, Body 19.00x19.00mmx1.60mm, Pitch 0.80mm)
part A pins: G9 TDO_0 (out), G12 RSVDGND (in), G14 VCCBATT_0 (power), H9 TDI_0 (in), H10 TMS_0 (in), H11 TCK_0 (in), K11 GNDADC_0 (power), K12 VCCADC_0 (power), L11 VREFN_0 (in), L12 VP_0 (in), M11 VN_0 (in), M12 VREFP_0 (in), N11 DXN_0 (in), N12 DXP_0 (in), T8 INIT_B_0 (oc), T9 CFGBVS_0 (in), T10 DONE_0 (oc), T11 RSVDVCC3 (in), T14 RSVDVCC2 (in), T15 RSVDVCC1 (in), V10 PROGRAM_B_0 (in)
part B pins: AA11 IO_L7P_T1_13 (io), AA12 IO_L8P_T1_13 (io), AA14 IO_L11P_T1_SRCC_13 (io), AA15 IO_L11N_T1_SRCC_13 (io), AA16 IO_L14P_T2_SRCC_13 (io), AA17 IO_L14N_T2_SRCC_13 (io), AA19 IO_L18P_T2_13 (io), AA20 IO_L18N_T2_13 (io), AB11 IO_L7N_T1_13 (io), AB12 IO_L8N_T1_13 (io), AB13 IO_L9P_T1_DQS_13 (io), AB14 IO_L9N_T1_DQS_13 (io), AB16 IO_L17P_T2_13 (io), AB17 IO_L17N_T2_13 (io), AB18 IO_L16P_T2_13 (io), AB19 IO_L16N_T2_13 (io), AB21 IO_L15P_T2_DQS_13 (io), AB22 IO_L15N_T2_DQS_13 (io), R17 IO_L19P_T3_13 (io), T16 IO_0_13 (io), T17 IO_L19N_T3_VREF_13 (io), U11 IO_L5P_T0_13 (io), U12 IO_L5N_T0_13 (io), U13 IO_L6P_T0_13 (io), U14 IO_L6N_T0_VREF_13 (io), U16 IO_25_13 (io), U17 IO_L22P_T3_13 (io), U18 IO_L22N_T3_13 (io), U19 IO_L20P_T3_13 (io), V11 IO_L4P_T0_13 (io), V13 IO_L1P_T0_13 (io), V14 IO_L1N_T0_13 (io), V15 IO_L2P_T0_13 (io), V16 IO_L23P_T3_13 (io), V18 IO_L21P_T3_DQS_13 (io), V19 IO_L20N_T3_13 (io), W11 IO_L4N_T0_13 (io), W12 IO_L3P_T0_DQS_13 (io), W13 IO_L3N_T0_DQS_13 (io), W15 IO_L2N_T0_13 (io), W16 IO_L23N_T3_13 (io), W17 IO_L24P_T3_13 (io), W18 IO_L21N_T3_DQS_13 (io), Y12 IO_L10P_T1_13 (io), Y13 IO_L10N_T1_13 (io), Y14 IO_L12P_T1_MRCC_13 (io), Y15 IO_L12N_T1_MRCC_13 (io), Y17 IO_L24N_T3_13 (io), Y18 IO_L13P_T2_MRCC_13 (io), Y19 IO_L13N_T2_MRCC_13 (io)
part C pins: H8 IO_0_34 (io), J1 IO_L8N_T1_34 (io), J2 IO_L8P_T1_34 (io), J3 IO_L9P_T1_DQS_34 (io), J5 IO_L7P_T1_34 (io), J6 IO_L2N_T0_34 (io), J7 IO_L2P_T0_34 (io), J8 IO_L1P_T0_34 (io), K2 IO_L9N_T1_DQS_34 (io), K3 IO_L11N_T1_SRCC_34 (io), K4 IO_L11P_T1_SRCC_34 (io), K5 IO_L7N_T1_34 (io), K7 IO_L3P_T0_DQS_PUDC_B_34 (io), K8 IO_L1N_T0_34 (io), L1 IO_L10N_T1_34 (io), L2 IO_L10P_T1_34 (io), L4 IO_L12N_T1_MRCC_34 (io), L5 IO_L12P_T1_MRCC_34 (io), L6 IO_L4P_T0_34 (io), L7 IO_L3N_T0_DQS_34 (io), M1 IO_L15N_T2_DQS_34 (io), M2 IO_L15P_T2_DQS_34 (io), M3 IO_L22N_T3_34 (io), M4 IO_L22P_T3_34 (io), M6 IO_L4N_T0_34 (io), M7 IO_L6N_T0_VREF_34 (io), M8 IO_L6P_T0_34 (io), N1 IO_L16P_T2_34 (io), N3 IO_L21N_T3_DQS_34 (io), N4 IO_L21P_T3_DQS_34 (io), N5 IO_L19N_T3_VREF_34 (io), N6 IO_L19P_T3_34 (io), N8 IO_L5P_T0_34 (io), P1 IO_L16N_T2_34 (io), P2 IO_L18N_T2_34 (io), P3 IO_L18P_T2_34 (io), P5 IO_L20N_T3_34 (io), P6 IO_L20P_T3_34 (io), P7 IO_L24P_T3_34 (io), P8 IO_L5N_T0_34 (io), R2 IO_L17N_T2_34 (io), R3 IO_L17P_T2_34 (io), R4 IO_L23N_T3_34 (io), R5 IO_L23P_T3_34 (io), R7 IO_L24N_T3_34 (io), R8 IO_25_34 (io), T1 IO_L13N_T2_MRCC_34 (io), T2 IO_L13P_T2_MRCC_34 (io), U1 IO_L14N_T2_SRCC_34 (io), U2 IO_L14P_T2_SRCC_34 (io)
part D pins: A1 IO_L15N_T2_DQS_AD12N_35 (io), A2 IO_L15P_T2_DQS_AD12P_35 (io), A4 IO_L10N_T1_AD11N_35 (io), A5 IO_L10P_T1_AD11P_35 (io), A6 IO_L9N_T1_DQS_AD3N_35 (io), A7 IO_L9P_T1_DQS_AD3P_35 (io), B1 IO_L18N_T2_AD13N_35 (io), B2 IO_L18P_T2_AD13P_35 (io), B3 IO_L13N_T2_MRCC_35 (io), B4 IO_L13P_T2_MRCC_35 (io), B6 IO_L8N_T1_AD10N_35 (io), B7 IO_L8P_T1_AD10P_35 (io), B8 IO_L7N_T1_AD2N_35 (io), C1 IO_L16N_T2_35 (io), C3 IO_L14N_T2_AD4N_SRCC_35 (io), C4 IO_L12N_T1_MRCC_35 (io), C5 IO_L11N_T1_SRCC_35 (io), C6 IO_L11P_T1_SRCC_35 (io), C8 IO_L7P_T1_AD2P_35 (io), D1 IO_L16P_T2_35 (io), D2 IO_L17N_T2_AD5N_35 (io), D3 IO_L14P_T2_AD4P_SRCC_35 (io), D5 IO_L12P_T1_MRCC_35 (io), D6 IO_L2N_T0_AD8N_35 (io), D7 IO_L2P_T0_AD8P_35 (io), D8 IO_L3N_T0_DQS_AD1N_35 (io), E2 IO_L17P_T2_AD5P_35 (io), E3 IO_L21N_T3_DQS_AD14N_35 (io), E4 IO_L21P_T3_DQS_AD14P_35 (io), E5 IO_L5N_T0_AD9N_35 (io), E7 IO_L1N_T0_AD0N_35 (io), E8 IO_L3P_T0_DQS_AD1P_35 (io), F1 IO_L23N_T3_35 (io), F2 IO_L23P_T3_35 (io), F4 IO_L20N_T3_AD6N_35 (io), F5 IO_L5P_T0_AD9P_35 (io), F6 IO_L6N_T0_VREF_35 (io), F7 IO_L1P_T0_AD0P_35 (io), G1 IO_L24N_T3_AD15N_35 (io), G2 IO_L22N_T3_AD7N_35 (io), G3 IO_L22P_T3_AD7P_35 (io), G4 IO_L20P_T3_AD6P_35 (io), G6 IO_L6P_T0_35 (io), G7 IO_L4N_T0_35 (io), G8 IO_L4P_T0_35 (io), H1 IO_L24P_T3_AD15P_35 (io), H3 IO_L19N_T3_VREF_35 (io), H4 IO_L19P_T3_35 (io), H5 IO_25_35 (io), H6 IO_0_35 (io)
part E pins: AA3 MGTPTXP0_112 (out), AA5 MGTPTXP2_112 (out), AA7 MGTPRXP0_112 (in), AA9 MGTPRXP2_112 (in), AB3 MGTPTXN0_112 (out), AB5 MGTPTXN2_112 (out), AB7 MGTPRXN0_112 (in), AB9 MGTPRXN2_112 (in), U5 MGTREFCLK1P_112 (in), U7 MGTRREF_112 (in), U9 MGTREFCLK0P_112 (in), V5 MGTREFCLK1N_112 (in), V9 MGTREFCLK0N_112 (in), W2 MGTPTXP3_112 (out), W4 MGTPTXP1_112 (out), W6 MGTPRXP3_112 (in), W8 MGTPRXP1_112 (in), Y2 MGTPTXN3_112 (out), Y4 MGTPTXN1_112 (out), Y6 MGTPRXN3_112 (in), Y8 MGTPRXN1_112 (in)
part F pins: A9 PS_MIO22_501 (io), A10 PS_MIO26_501 (io), A11 PS_MIO28_501 (io), A12 PS_MIO30_501 (io), A14 PS_MIO36_501 (io), A15 PS_MIO20_501 (io), A16 PS_MIO18_501 (io), A17 PS_MIO13_500 (io), A19 PS_MIO6_500 (io), A20 PS_MIO5_500 (io), A21 PS_MIO2_500 (io), A22 PS_MIO1_500 (io), B9 PS_MIO37_501 (io), B11 PS_MIO34_501 (io), B12 PS_MIO43_501 (io), B13 PS_MIO47_501 (io), B14 PS_MIO45_501 (io), B16 PS_MIO24_501 (io), B17 PS_MIO14_500 (io), B18 PS_POR_B_500 (in), B19 PS_MIO11_500 (io), C9 PS_MIO49_501 (io), C10 PS_MIO39_501 (io), C11 PS_MIO53_501 (io), C13 PS_MIO51_501 (io), C14 PS_SRST_B_501 (in), C15 PS_MIO41_501 (io), C16 PS_MIO32_501 (io), C18 PS_MIO12_500 (io), C19 PS_MIO9_500 (io), D10 PS_MIO50_501 (io), D11 PS_MIO46_501 (io), D12 PS_MIO48_501 (io), D13 PS_MIO52_501 (io), D15 PS_MIO42_501 (io), D16 PS_MIO27_501 (io), D17 PS_MIO16_501 (io), D18 PS_MIO7_500 (io), E9 PS_MIO40_501 (io), E10 PS_MIO44_501 (io), E12 PS_MIO23_501 (io), E13 PS_MIO19_501 (io), E14 PS_MIO17_501 (io), E15 PS_MIO29_501 (io), E17 PS_MIO15_500 (in), E18 PS_MIO8_500 (io), E19 PS_MIO4_500 (io), F9 PS_MIO35_501 (io), F10 PS_MIO38_501 (io), F11 PS_MIO25_501 (io), F12 PS_MIO21_501 (io), F14 PS_MIO31_501 (io), F15 PS_MIO_VREF_501, F16 PS_CLK_500 (in), F17 PS_MIO3_500 (io), G11 PS_MIO33_501 (io), G16 PS_MIO10_500 (io), G17 PS_MIO0_500 (io)
part G pins: AA21 PS_DDR_DM3_502 (out), AA22 PS_DDR_DQ26_502 (io), B21 PS_DDR_DQ2_502 (io), B22 PS_DDR_DM0_502 (out), C20 PS_DDR_DQ1_502 (io), C21 PS_DDR_DQS_P0_502 (io), D20 PS_DDR_DQ3_502 (io), D21 PS_DDR_DQS_N0_502 (io), D22 PS_DDR_DQ0_502 (io), E20 PS_DDR_DQ4_502 (io), E22 PS_DDR_DQ5_502 (io), F19 PS_DDR_A13_502 (out), F20 PS_DDR_DRST_B_502 (out), F21 PS_DDR_DQ6_502 (io), F22 PS_DDR_DQ7_502 (io), G18 PS_DDR_A11_502 (out), G19 PS_DDR_A14_502 (out), G21 PS_DDR_DQ8_502 (io), G22 PS_DDR_DQ9_502 (io), H16 PS_DDR_VREF0_502, H18 PS_DDR_A9_502 (out), H19 PS_DDR_A12_502 (out), H20 PS_DDR_DM1_502 (out), H21 PS_DDR_DQS_P1_502 (io), J16 PS_DDR_A6_502 (out), J17 PS_DDR_A7_502 (out), J18 PS_DDR_A8_502 (out), J20 PS_DDR_A10_502 (out), J21 PS_DDR_DQS_N1_502 (io), J22 PS_DDR_DQ14_502 (io), K17 PS_DDR_A4_502 (out), K18 PS_DDR_A5_502 (out), K19 PS_DDR_A2_502 (out), K20 PS_DDR_DQ15_502 (io), K22 PS_DDR_DQ13_502 (io), L16 PS_DDR_BA0_502 (out), L17 PS_DDR_BA1_502 (out), L19 PS_DDR_A3_502 (out), L20 PS_DDR_DQ12_502 (io), L21 PS_DDR_DQ11_502 (io), L22 PS_DDR_DQ10_502 (io), M16 PS_DDR_VRN_502 (out), M17 PS_DDR_BA2_502 (out), M18 PS_DDR_A1_502 (out), M19 PS_DDR_A0_502 (out), M21 PS_DDR_DQ22_502 (io), M22 PS_DDR_DQ16_502 (io), N16 PS_DDR_VRP_502 (out), N18 PS_DDR_CKN_502 (out), N19 PS_DDR_CKP_502 (out), N20 PS_DDR_DQ18_502 (io), N21 PS_DDR_DQS_P2_502 (io), P16 PS_DDR_VREF1_502, P17 PS_DDR_CS_B_502 (out), P18 PS_DDR_ODT_502 (out), P20 PS_DDR_CAS_B_502 (out), P21 PS_DDR_DQS_N2_502 (io), P22 PS_DDR_DM2_502 (out), R18 PS_DDR_RAS_B_502 (out), R19 PS_DDR_WE_B_502 (out), R20 PS_DDR_DQ20_502 (io), R22 PS_DDR_DQ23_502 (io), T19 PS_DDR_CKE_502 (out), T20 PS_DDR_DQ17_502 (io), T21 PS_DDR_DQ21_502 (io), T22 PS_DDR_DQ19_502 (io), U21 PS_DDR_DQ27_502 (io), U22 PS_DDR_DQ25_502 (io), V20 PS_DDR_DQ30_502 (io), V21 PS_DDR_DQS_P3_502 (io), W20 PS_DDR_DQ29_502 (io), W21 PS_DDR_DQS_N3_502 (io), W22 PS_DDR_DQ28_502 (io), Y20 PS_DDR_DQ24_502 (io), Y22 PS_DDR_DQ31_502 (io)
part H pins: A3 VCCO_35 (power), A13 VCCO_MIO1_501 (power), AA2 MGTAVTT (power), AA4 MGTAVTT (power), AA8 MGTAVTT (power), AA13 VCCO_13 (power), AB1 MGTAVTT (power), AB6 MGTAVTT (power), AB20 VCCO_13 (power), B10 VCCO_MIO1_501 (power), B20 VCCO_MIO0_500 (power), C7 VCCO_35 (power), C17 VCCO_MIO0_500 (power), D4 VCCO_35 (power), D14 VCCO_MIO1_501 (power), E1 VCCO_35 (power), E11 VCCO_MIO1_501 (power), E21 VCCO_DDR_502 (power), F8 VCCO_35 (power), F18 VCCO_DDR_502 (power), G5 VCCO_35 (power), G13 VCCPLL (power), G15 VCCPINT (power), H2 VCCO_34 (power), H12 VCCBRAM (power), H14 VCCPINT (power), H22 VCCO_DDR_502 (power), J9 VCCINT (power), J11 VCCINT (power), J13 VCCBRAM (power), J15 VCCPINT (power), J19 VCCO_DDR_502 (power), K6 VCCO_34 (power), K10 VCCINT (power), K14 VCCPAUX (power), K16 VCCO_DDR_502 (power), L3 VCCO_34 (power), L9 VCCINT (power), L13 VCCPAUX (power), L15 VCCPINT (power), M10 VCCINT (power), M14 VCCPAUX (power), M20 VCCO_DDR_502 (power), N7 VCCO_34 (power), N9 VCCINT (power), N13 VCCAUX (power), N15 VCCPINT (power), N17 VCCO_DDR_502 (power), P4 VCCO_34 (power), P10 VCCINT (power), P12 VCCAUX (power), P14 VCCPAUX (power), R1 VCCO_34 (power), R9 VCCINT (power), R11 VCCO_0 (power), R13 VCCAUX (power), R15 VCCPINT (power), R21 VCCO_DDR_502 (power), T12 VCCAUX (power), T18 VCCO_13 (power), U4 MGTAVCC (power), U6 MGTAVCC (power), U8 MGTAVCC (power), U15 VCCO_13 (power), V12 VCCO_13 (power), V22 VCCO_DDR_502 (power), W5 MGTAVCC (power), W9 MGTAVCC (power), W19 VCCO_13 (power), Y7 MGTAVTT (power), Y16 VCCO_13 (power)
part I pins: A8 GND (power), A18 GND (power), AA1 GND (power), AA6 GND (power), AA10 GND (power), AA18 GND (power), AB2 GND (power), AB4 GND (power), AB8 GND (power), AB10 GND (power), AB15 GND (power), B5 GND (power), B15 GND (power), C2 GND (power), C12 GND (power), C22 GND (power), D9 GND (power), D19 GND (power), E6 GND (power), E16 GND (power), F3 GND (power), F13 GND (power), G10 GND (power), G20 GND (power), H7 GND (power), H13 GND (power), H15 GND (power), H17 GND (power), J4 GND (power), J10 GND (power), J12 GND (power), J14 GND (power), K1 GND (power), K9 GND (power), K13 GND (power), K15 GND (power), K21 GND (power), L8 GND (power), L10 GND (power), L14 GND (power), L18 GND (power), M5 GND (power), M9 GND (power), M13 GND (power), M15 GND (power), N2 GND (power), N10 GND (power), N14 GND (power), N22 GND (power), P9 GND (power), P11 GND (power), P13 GND (power), P15 GND (power), P19 GND (power), R6 GND (power), R10 GND (power), R12 GND (power), R14 GND (power), R16 GND (power), T3 GND (power), T4 GND (power), T5 GND (power), T6 GND (power), T7 GND (power), T13 GND (power), U3 GND (power), U10 GND (power), U20 GND (power), V1 GND (power), V2 GND (power), V3 GND (power), V4 GND (power), V6 GND (power), V7 NC, V8 GND (power), V17 GND (power), W1 GND (power), W3 NC, W7 GND (power), W10 GND (power), W14 GND (power), Y1 GND (power), Y3 GND (power), Y5 GND (power), Y9 GND (power), Y10 GND (power), Y11 GND (power), Y21 GND (power)
part A text: CONFIG
part B text: BANK 13
part C text: BANK34
part D text: BANK35
part E text: BANK 112; (Multi-Gigabit Transceivers)
part F text: BANK 500/501
part G text: BANK 502; (DDR Interface)
part H text: POWER

## XLH535125.000000I
designator Y?, comment Renesas 125MHz OSC
125MHz XO (Standard) HCMOS Oscillator 3.3V Enable/Disable 6-SMD, No Lead; MFN: Renesas Electronics America Inc; MFN_PN: XLH535125.000000I; Supplier 1: Digi-Key; Supplier 1 Part Number: 800-4278-ND
footprint EPSON SG5032 (EPSON SG5032 XTAL)
pins: 1 OE (in), 2 N.C, 3 GND, 4 OUT+ (out), 5 OUT- (out), 6 VCC